# Altium integrated library 796683-9.IntLib: 1 symbol
Pins are listed as number, name and electrical type; pins without a type are passive.

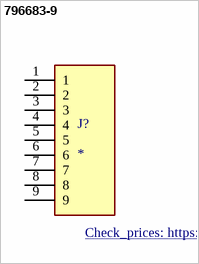
[diagram p0: symbol 796683-9]

## 796683-9
designator J?
9 Position Wire to Board Terminal Block Horizontal with Board 0.197 (5.00mm) Through Hole; MP: 796683-9; MF: TE Connectivity; DigiKey-Purchase-URL: https://snapeda.com/shop?store=DigiKey&id=2387175; Package: None; EU_RoHS_Compliance: Compliant with Exemptions; Price: None; Value: *; SnapEDA_Link: https://www.snapeda.com/parts/796683-9/TE%20Connectivity/view-part/2387175/?ref=snap; Availability: Warning; Check_prices: https://www.snapeda.com/parts/796683-9/TE%20Connectivity/view-part/2387175/?ref=eda
footprint TE_796683-9
pins: 1, 2, 3, 4, 5, 6, 7, 8, 9